# Altium footprint library UL865.PcbLib: 1 footprints
Each footprint in its own frame and in the unit in brackets; x right, y up, seen from the top. Pads: shape width x height; smd on the part's side, far side on the other; paste and mask are expansions set on the pad; w line width, h text height; cw(c..) or ccw(c..) is an arc to the next point about the centre after c.
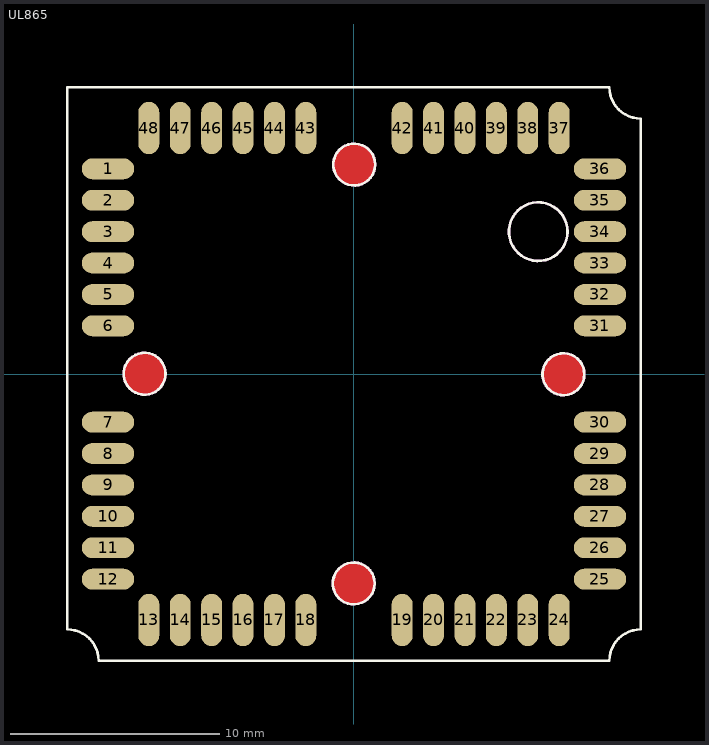
[diagram p0: the footprint, top view; thin cyan lines are the x and y axes]

## UL865 [mm]
pads (48):
  oval 2.5x1 smd: 1(-11.75,9.8) 2(-11.75,8.3) 3(-11.75,6.8) 4(-11.75,5.3) 5(-11.75,3.8) 6(-11.75,2.3) 7(-11.75,-2.3) 8(-11.75,-3.8) 9(-11.75,-5.3) 10(-11.75,-6.8) 11(-11.75,-8.3) 12(-11.75,-9.8) 25(11.75,-9.8) 26(11.75,-8.3) 27(11.75,-6.8) 28(11.75,-5.3) 29(11.75,-3.8) 30(11.75,-2.3) 31(11.75,2.3) 32(11.75,3.8) 33(11.75,5.3) 34(11.75,6.8) 35(11.75,8.3) 36(11.75,9.8)
  oval 1x2.5 smd: 13(-9.8,-11.75) 14(-8.3,-11.75) 15(-6.8,-11.75) 16(-5.3,-11.75) 17(-3.8,-11.75) 18(-2.3,-11.75) 19(2.3,-11.75) 20(3.8,-11.75) 21(5.3,-11.75) 22(6.8,-11.75) 23(8.3,-11.75) 24(9.8,-11.75) 37(9.8,11.75) 38(8.3,11.75) 39(6.8,11.75) 40(5.3,11.75) 41(3.8,11.75) 42(2.3,11.75) 43(-2.3,11.75) 44(-3.8,11.75) 45(-5.3,11.75) 46(-6.8,11.75) 47(-8.3,11.75) 48(-9.8,11.75)
Top Layer:
  pour cut-out: 9.962,0.991 9.968,1 10.24,0.964 10.493,0.859 10.711,0.692 10.878,0.474 10.983,0.221 11.018,-0.051 10.985,-0.296 10.891,-0.525 10.74,-0.721 10.544,-0.872 10.315,-0.966 10.07,-0.999 10.07,-0.991 9.962,-0.999 9.715,-0.966 9.485,-0.871 9.288,-0.72 9.137,-0.522 9.041,-0.292 9.009,-0.046 9.017,-0.046 9.009,0.046 9.041,0.292 9.137,0.522 9.288,0.72 9.485,0.871 9.715,0.966 9.962,0.999
  pour cut-out: 0.991,-9.962 1,-9.968 0.964,-10.24 0.859,-10.493 0.692,-10.711 0.474,-10.878 0.221,-10.983 -0.051,-11.018 -0.296,-10.985 -0.525,-10.891 -0.721,-10.74 -0.872,-10.544 -0.966,-10.315 -0.999,-10.07 -0.991,-10.07 -0.999,-9.962 -0.966,-9.715 -0.871,-9.485 -0.72,-9.288 -0.522,-9.137 -0.292,-9.041 -0.046,-9.009 -0.046,-9.017 0.046,-9.009 0.292,-9.041 0.522,-9.137 0.72,-9.288 0.871,-9.485 0.966,-9.715 0.999,-9.962
  pour cut-out: -9.962,-0.991 -9.968,-1 -10.24,-0.964 -10.493,-0.859 -10.711,-0.692 -10.878,-0.474 -10.983,-0.221 -11.018,0.051 -10.985,0.296 -10.891,0.525 -10.74,0.721 -10.544,0.872 -10.315,0.966 -10.07,0.999 -10.07,0.991 -9.962,0.999 -9.715,0.966 -9.485,0.871 -9.288,0.72 -9.137,0.522 -9.041,0.292 -9.009,0.046 -9.017,0.046 -9.009,-0.046 -9.041,-0.292 -9.137,-0.522 -9.288,-0.72 -9.485,-0.871 -9.715,-0.966 -9.962,-0.999
  pour cut-out: -0.991,9.962 -1,9.968 -0.964,10.24 -0.859,10.493 -0.692,10.711 -0.474,10.878 -0.221,10.983 0.051,11.018 0.296,10.985 0.525,10.891 0.721,10.74 0.872,10.544 0.966,10.315 0.999,10.07 0.991,10.07 0.999,9.962 0.966,9.715 0.871,9.485 0.72,9.288 0.522,9.137 0.292,9.041 0.046,9.009 0.046,9.017 -0.046,9.009 -0.292,9.041 -0.522,9.137 -0.72,9.288 -0.871,9.485 -0.966,9.715 -0.999,9.962
Bottom Layer:
  pour cut-out: 9.962,0.991 9.968,1 10.24,0.964 10.493,0.859 10.711,0.692 10.878,0.474 10.983,0.221 11.018,-0.051 10.985,-0.296 10.891,-0.525 10.74,-0.721 10.544,-0.872 10.315,-0.966 10.07,-0.999 10.07,-0.991 9.962,-0.999 9.715,-0.966 9.485,-0.871 9.288,-0.72 9.137,-0.522 9.041,-0.292 9.009,-0.046 9.017,-0.046 9.009,0.046 9.041,0.292 9.137,0.522 9.288,0.72 9.485,0.871 9.715,0.966 9.962,0.999
  pour cut-out: 0.991,-9.962 1,-9.968 0.964,-10.24 0.859,-10.493 0.692,-10.711 0.474,-10.878 0.221,-10.983 -0.051,-11.018 -0.296,-10.985 -0.525,-10.891 -0.721,-10.74 -0.872,-10.544 -0.966,-10.315 -0.999,-10.07 -0.991,-10.07 -0.999,-9.962 -0.966,-9.715 -0.871,-9.485 -0.72,-9.288 -0.522,-9.137 -0.292,-9.041 -0.046,-9.009 -0.046,-9.017 0.046,-9.009 0.292,-9.041 0.522,-9.137 0.72,-9.288 0.871,-9.485 0.966,-9.715 0.999,-9.962
  pour cut-out: -9.962,-0.991 -9.968,-1 -10.24,-0.964 -10.493,-0.859 -10.711,-0.692 -10.878,-0.474 -10.983,-0.221 -11.018,0.051 -10.985,0.296 -10.891,0.525 -10.74,0.721 -10.544,0.872 -10.315,0.966 -10.07,0.999 -10.07,0.991 -9.962,0.999 -9.715,0.966 -9.485,0.871 -9.288,0.72 -9.137,0.522 -9.041,0.292 -9.009,0.046 -9.017,0.046 -9.009,-0.046 -9.041,-0.292 -9.137,-0.522 -9.288,-0.72 -9.485,-0.871 -9.715,-0.966 -9.962,-0.999
  pour cut-out: -0.991,9.962 -1,9.968 -0.964,10.24 -0.859,10.493 -0.692,10.711 -0.474,10.878 -0.221,10.983 0.051,11.018 0.296,10.985 0.525,10.891 0.721,10.74 0.872,10.544 0.966,10.315 0.999,10.07 0.991,10.07 0.999,9.962 0.966,9.715 0.871,9.485 0.72,9.288 0.522,9.137 0.292,9.041 0.046,9.009 0.046,9.017 -0.046,9.009 -0.292,9.041 -0.522,9.137 -0.72,9.288 -0.871,9.485 -0.966,9.715 -0.999,9.962
Top Overlay:
  lines w0.127: -13.7,-12.2 cw(c-13.7,-13.7) -12.2,-13.7 12.2,-13.7 cw(c13.7,-13.7) 13.7,-12.2 13.7,12.2 cw(c13.7,13.7) 12.2,13.7 -13.7,13.7 -13.7,-12.2
Top Overlay keep-out:
  circle w0.127: c10.004,-0.012 r1
  circle w0.127: c-0.012,-10.004 r1
  circle w0.127: c-10.004,0.012 r1
  circle w0.127: c0.012,10.004 r1
  circle w0.127: c8.8,6.8 r1.4
Mechanical 1:
  text "Wiring inhibit" at -3.81,7.97 h0.91
Multi-Layer:
  pour cut-out: 7.197,6.8 7.228,6.485 7.32,6.182 7.469,5.902 7.67,5.658 7.915,5.457 8.194,5.307 8.497,5.216 8.812,5.184 9.127,5.216 9.43,5.307 9.71,5.457 9.954,5.658 10.155,5.902 10.305,6.182 10.397,6.485 10.428,6.8 10.397,7.114 10.305,7.417 10.156,7.695 9.956,7.94 9.711,8.14 9.433,8.289 9.13,8.381 8.816,8.412 8.816,8.404 8.808,8.412 8.494,8.381 8.191,8.289 7.913,8.14 7.669,7.94 7.468,7.695 7.319,7.417 7.228,7.114
3D body: height 2.7, standoff 0, extent -10.922,-10.886 10.922,10.804